# EAGLE library part PGA2311 (library texas)
DIGITALLY-CONTROLLED ANALOG VOLUME CONTROL
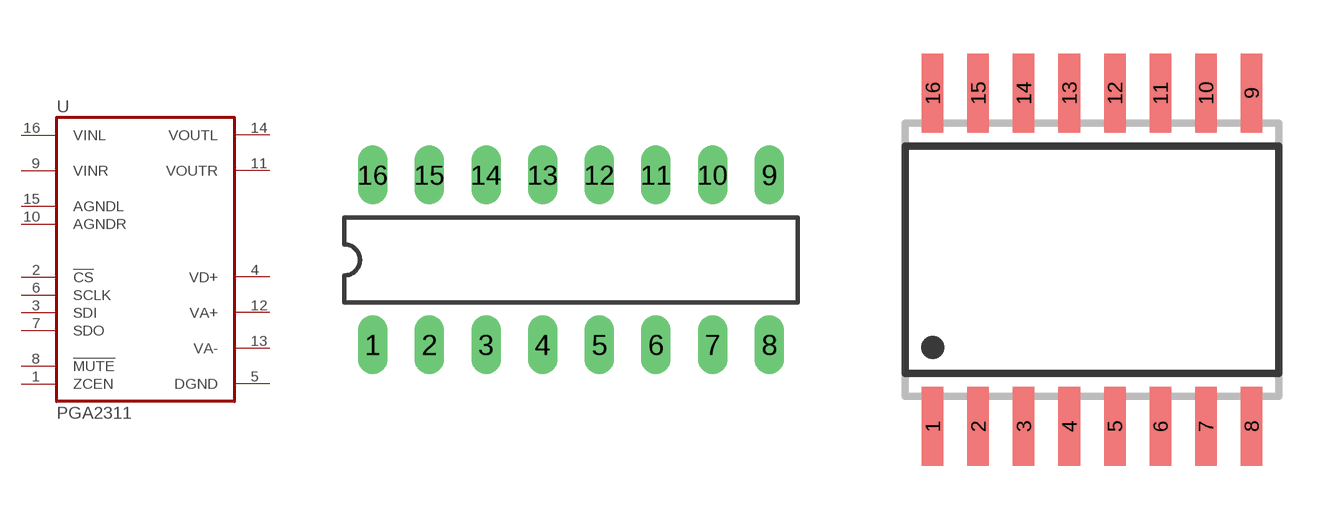
[diagram p51: symbol with the pads of DIL16; footprints DIL16, SO16W]

Designator prefix U

## PGA2311P  [DIL16]
1  ZCEN  in
2  !CS!  in
3  SDI  in
4  VD+  pwr
5  DGND  pwr
6  SCLK  in
7  SDO  out
8  !MUTE!  in
9  VINR  in
10  AGNDR  pwr
11  VOUTR  out
12  VA+  pwr
13  VA-  pwr
14  VOUTL  out
15  AGNDL  pwr
16  VINL  in

## PGA2311U  [SO16W]
Pads as for DIL16

## Footprint DIL16 (pad centres in mm)
Dual In Line Package
drill 0.813 long: 1 -8.89,-3.81; 2 -6.35,-3.81; 3 -3.81,-3.81; 4 -1.27,-3.81; 5 1.27,-3.81; 6 3.81,-3.81; 7 6.35,-3.81; 8 8.89,-3.81; 9 8.89,3.81; 10 6.35,3.81; 11 3.81,3.81; 12 1.27,3.81; 13 -1.27,3.81; 14 -3.81,3.81; 15 -6.35,3.81; 16 -8.89,3.81

## Footprint SO16W (pad centres in mm)
SMALL OUTLINE INTEGRATED CIRCUIT wide body 7.5 mm/JEDEC MS-013AA
smd 0.6 x 2.2: 1 -4.445,-4.65; 2 -3.175,-4.65; 3 -1.905,-4.65; 4 -0.635,-4.65; 5 0.635,-4.65; 6 1.905,-4.65; 7 3.175,-4.65; 8 4.445,-4.65; 9 4.445,4.65; 10 3.175,4.65; 11 1.905,4.65; 12 0.635,4.65; 13 -0.635,4.65; 14 -1.905,4.65; 15 -3.175,4.65; 16 -4.445,4.65